# Altium footprint library ZC362800#.PcbLib: 1 footprints
Each footprint in its own frame and in the unit in brackets; x right, y up, seen from the top. Pads: shape width x height; smd on the part's side, far side on the other; paste and mask are expansions set on the pad; w line width, h text height; cw(c..) or ccw(c..) is an arc to the next point about the centre after c.
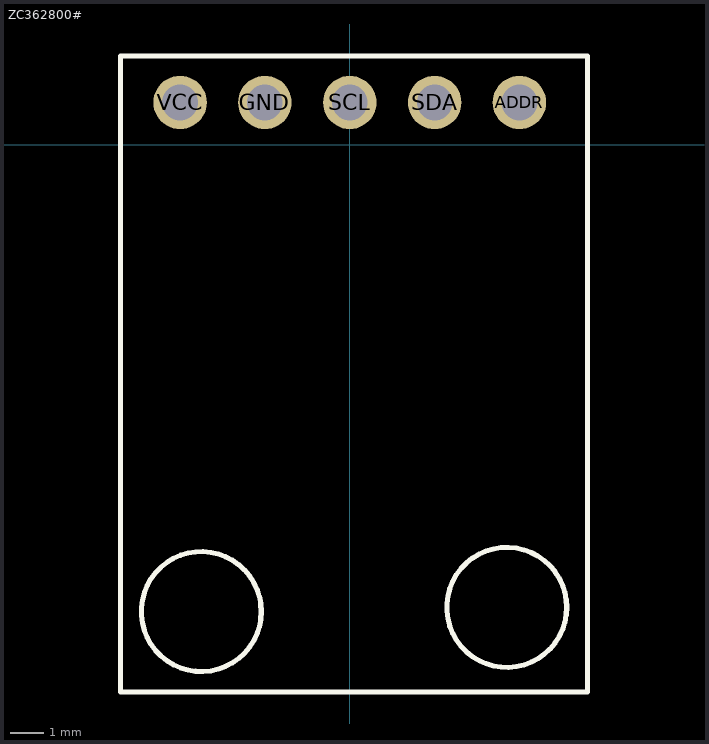
[diagram p0: the footprint, top view; thin cyan lines are the x and y axes]

## ZC362800# [mil]
pads (5):
  round 63 hole 42: ADDR(200,50) GND(-100,50) SCL(0,50) SDA(100,50) VCC(-200,50)
Top Overlay:
  circle w6: c-175,-550 r70.71
  circle w6: c185,-545 r70.71
  lines w6: -270,-645 280,-645 280,105 -270,105 -270,-645